# EAGLE library part TPS2054B (library WaterDrop)
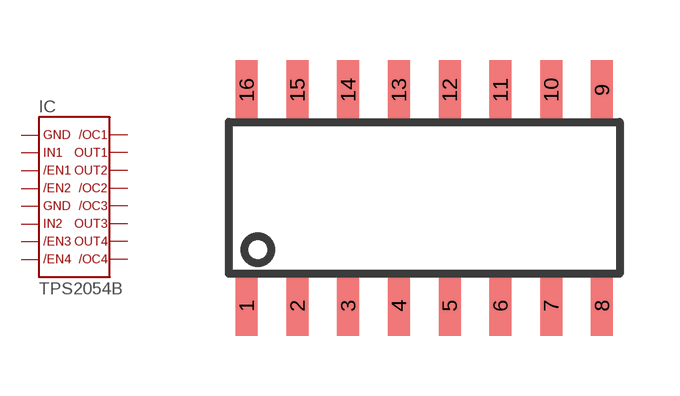
[diagram p1: symbol with the pads of R-PDSO-G16; footprint R-PDSO-G16]

Designator prefix IC

## TPS2054B  [R-PDSO-G16]
1  P$1  pwr
2  P$2  in
3  P$3  in
4  P$4  in
5  P$5  pwr
6  P$6  in
7  P$7  in
8  P$8  in
9  P$9  out
10  P$10  out
11  P$11  out
12  P$12  out
13  P$13  out
14  P$14  out
15  P$15  out
16  P$16  out

## Footprint R-PDSO-G16 (pad centres in mm)
smd 0.55 x 1.5: 1 -4.445,-2.7; 2 -3.175,-2.7; 3 -1.905,-2.7; 4 -0.635,-2.7; 5 0.635,-2.7; 6 1.905,-2.7; 7 3.175,-2.7; 8 4.445,-2.7; 9 4.445,2.7; 10 3.175,2.7; 11 1.905,2.7; 12 0.635,2.7; 13 -0.635,2.7; 14 -1.905,2.7; 15 -3.175,2.7; 16 -4.445,2.7